# Altium footprint library Misc.PcbLib: 2 footprints
Each footprint in its own frame and in the unit in brackets; x right, y up, seen from the top. Pads: shape width x height; smd on the part's side, far side on the other; paste and mask are expansions set on the pad; w line width, h text height; cw(c..) or ccw(c..) is an arc to the next point about the centre after c.
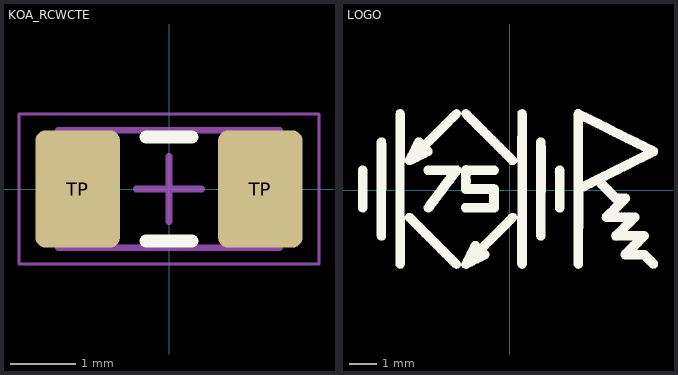
[diagram p0: the footprints below, top view; thin cyan lines are the x and y axes]

## KOA_RCWCTE [mm] "KOA Speer Test Point Chip EIA 1206"
height 2
pads (2):
  rrect25% 1.3x1.8 smd paste+0 mask+0.05: TP(-1.4,0) TP(1.4,0)
Top Overlay:
  lines w0.2: -0.35,-0.8 0.35,-0.8 ; -0.35,0.8 0.35,0.8
Top Component Outline:
  lines w0.1: -1.7,-0.9 1.7,-0.9 1.7,0.9 -1.7,0.9 -1.7,-0.9
Top Courtyard:
  lines w0.05: -2.3,-1.15 2.3,-1.15 2.3,1.15 -2.3,1.15 -2.3,-1.15
Top Component Center:
  lines w0.1: -0.5,0 0.5,0 ; 0,-0.5 0,0.5
Top Designator:
  text ".Designator" at -4.04,-0.476 h2
Top Assembly:
  lines w0.1: -1.7,-0.9 1.7,-0.9 1.7,0.9 -1.7,0.9 -1.7,-0.9
  text ".Designator" at -4.04,-0.476 h2
3D body "TP_KOA_RCWCTE.step": height 2.01, standoff 0, extent -1.6,-0.8 1.6,0.8

## LOGO [mm] "Logo KKR75"
Top Overlay:
  drawing of 7 lines, arcs and shapes, not listed